# Altium schematic symbol library RES,3k9,0.5%,0.063W,0603.Schlib: 1 symbol
Pins are listed as number, name and electrical type; pins without a type are passive.

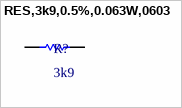
[diagram p0: symbol RES,3k9,0.5%,0.063W,0603]

## RES,3k9,0.5%,0.063W,0603
designator R?, comment 3k9
3.9 ±0.5% 0.063W, 1/16W Chip Resistor 0603 (1608 Metric) - Thin Film
pins: 1, 2